# EAGLE library part LT8636HV#PBF (library LT8636HV#PBF)
42V, 5A/7A Peak Synchronous Step-Down Silent Switcher with 2.5uA Quiescent Current Source: Datasheet <https://www.analog.com/media/en/technical-documentation/data-sheets/lt8636-8637.pdf>
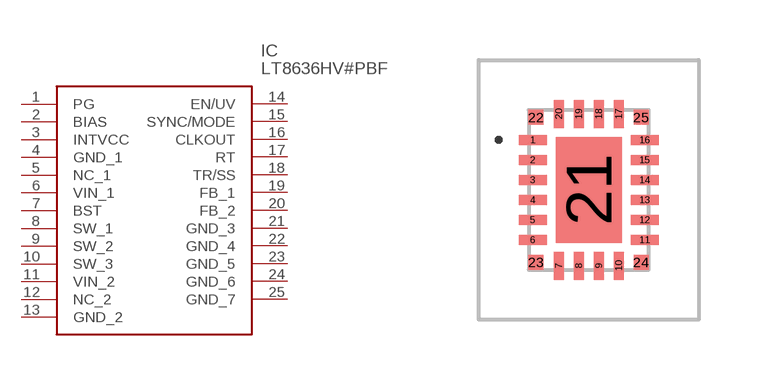
[diagram p0: symbol with the pads of LT8636HVPBF; footprint LT8636HVPBF]

Designator prefix IC

## LT8636HV#PBF (Description: 42V, 5A/7A Peak Synchronous Step-Down Silent Switcher with 2.5uA Quiescent Current; Height: 1.03mm; Manufacturer_Name: Analog Devices; Manufacturer_Part_Number: LT8636HV#PBF; Mouser_Part_Number: 584-LT8636HV#PBF; Mouser_Price-Stock: https://www.mouser.co.uk/ProductDetail/Analog-Devices/LT8636HVPBF?qs=P1JMDcb91o4F2ogaQ2J9Vg%3D%3D)  [LT8636HVPBF]
1  PG
2  BIAS
3  INTVCC
4  GND_1
5  NC_1
6  VIN_1
7  BST
8  SW_1
9  SW_2
10  SW_3
11  VIN_2
12  NC_2
13  GND_2
14  EN/UV
15  SYNC/MODE
16  CLKOUT
17  RT
18  TR/SS
19  FB_1
20  FB_2
21  GND_3
22  GND_4
23  GND_5
24  GND_6
25  GND_7

## Footprint LT8636HVPBF (pad centres in mm)
LT8636HV#PBF-1
smd 0.7 x 0.25: 1 -1.4,1.25; 2 -1.4,0.75; 3 -1.4,0.25; 4 -1.4,-0.25; 5 -1.4,-0.75; 6 -1.4,-1.25; 11 1.4,-1.25; 12 1.4,-0.75; 13 1.4,-0.25; 14 1.4,0.25; 15 1.4,0.75; 16 1.4,1.25
smd 0.25 x 0.7: 7 -0.75,-1.9; 8 -0.25,-1.9; 9 0.25,-1.9; 10 0.75,-1.9; 17 0.75,1.9; 18 0.25,1.9; 19 -0.25,1.9; 20 -0.75,1.9
smd 1.65 x 2.65: 21 0,0
smd 0.375 x 0.375: 22 -1.313,1.813; 23 -1.313,-1.813; 24 1.313,-1.813; 25 1.313,1.813